# Altium footprint library SEC_3002_DZ&HL.PcbLib: 65 footprints (part 4 of 5)
Each footprint in its own frame and in the unit in brackets; x right, y up, seen from the top. Pads: shape width x height; smd on the part's side, far side on the other; paste and mask are expansions set on the pad; w line width, h text height; cw(c..) or ccw(c..) is an arc to the next point about the centre after c.
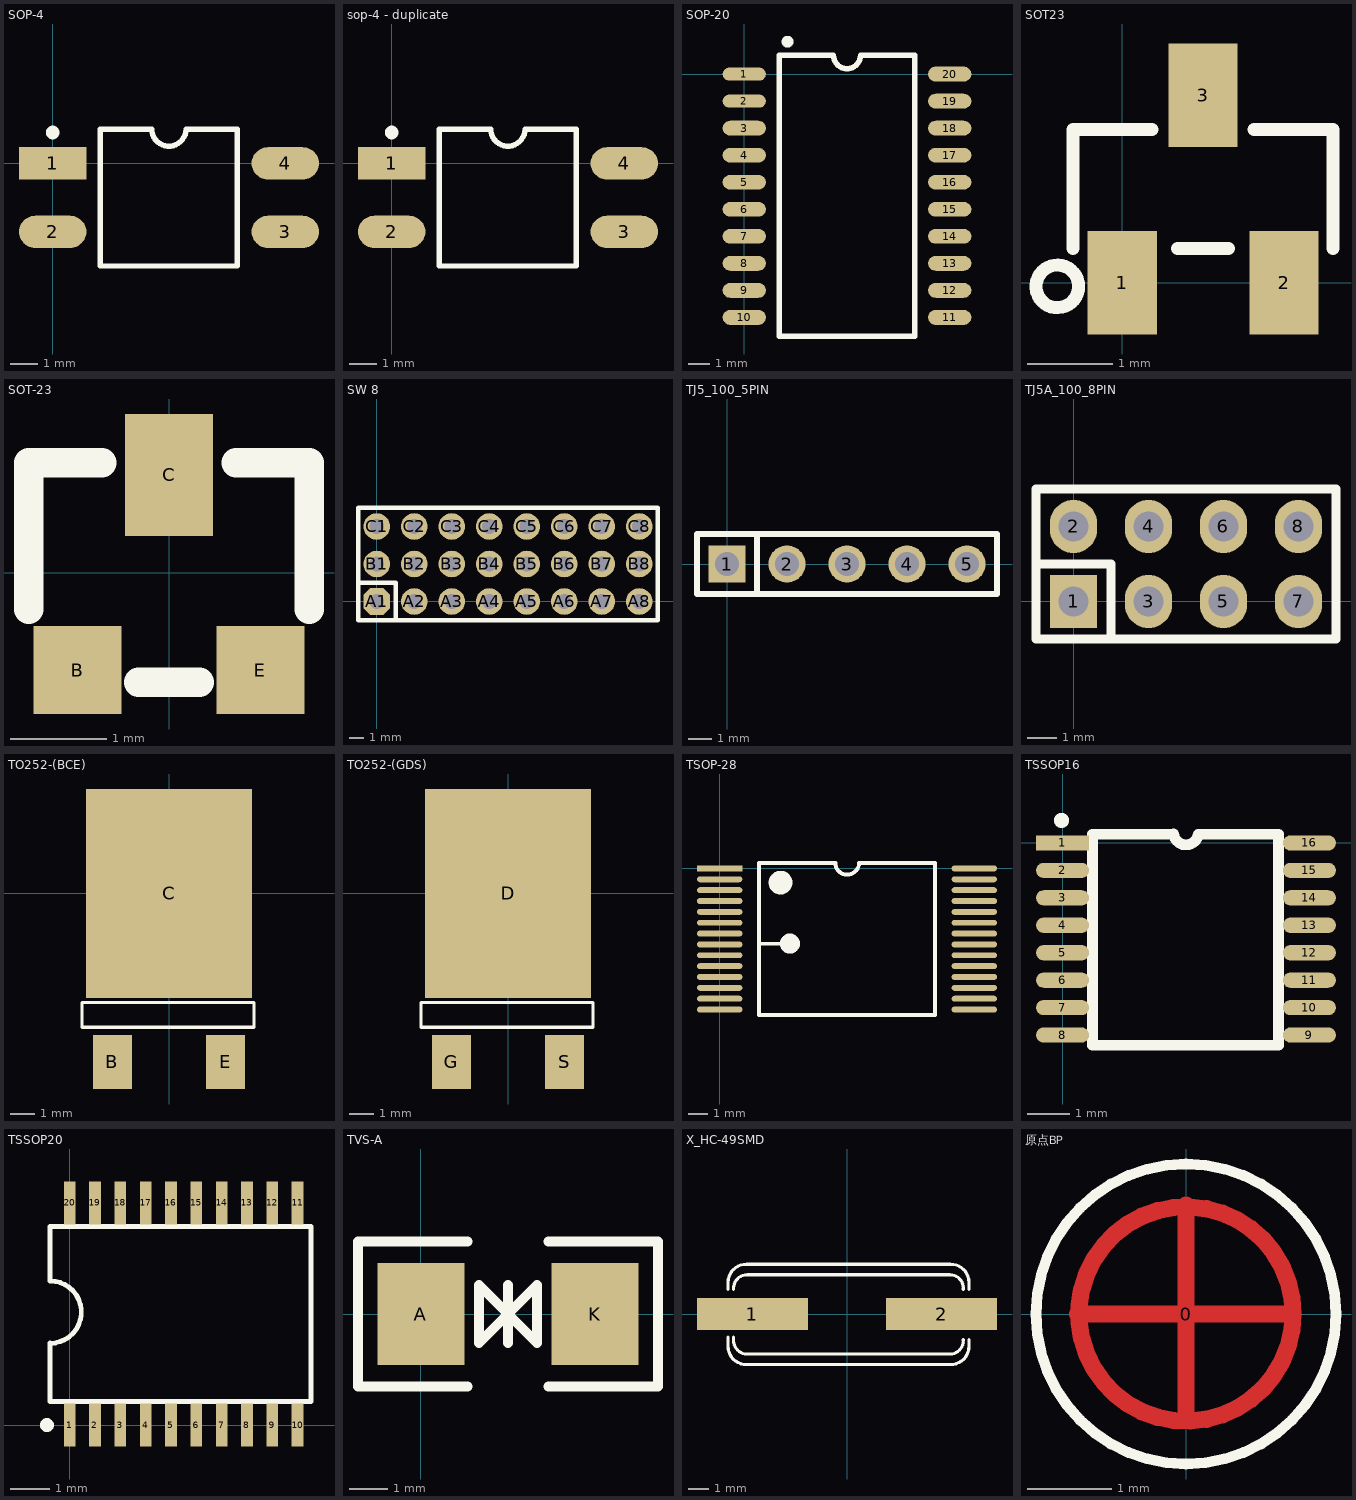
[diagram p3: the footprints below, top view; thin cyan lines are the x and y axes]

## SOP-4 [mm]
pads (4):
  rect 2.5x1.2 smd: 1(0,0)
  oval 2.5x1.2 smd: 2(0,-2.54) 3(8.628,-2.54) 4(8.628,0)
Top Overlay:
  circle w0.254: c0,1.143 r0.127
  lines w0.2: 1.77,-3.81 1.77,1.27 3.675,1.27 ccw(c4.31,1.27) 4.945,1.27 6.85,1.27 6.85,-3.81 1.77,-3.81

## sop-4 - duplicate [mm]
pads (4):
  rect 2.5x1.2 smd: 1(0,0)
  oval 2.5x1.2 smd: 2(0,-2.54) 3(8.628,-2.54) 4(8.628,0)
Top Overlay:
  circle w0.254: c0,1.143 r0.127
  lines w0.2: 1.77,-3.81 1.77,1.27 3.675,1.27 ccw(c4.31,1.27) 4.945,1.27 6.85,1.27 6.85,-3.81 1.77,-3.81

## SOP-20 [mil]
height 53.15
pads (20):
  oval 80x24 smd: 1(0,0) 2(0,-50)
  oval 80x27.56 smd: 3(0,-100) 4(0,-150) 5(0,-200) 6(0,-250) 7(0,-300) 8(0,-350) 9(0,-400) 10(0,-450) 11(380,-450) 12(380,-400) 13(380,-350) 14(380,-300) 15(380,-250) 16(380,-200) 17(380,-150) 18(380,-100) 19(380,-50) 20(380,0)
Top Overlay:
  circle w12: c80,60 r5
  lines w10: 65,-485 315,-485 315,35 215,35 cw(c190,35) 165,35 65,35 65,-485

## SOT23 [mil]
pads (3):
  rect 32x48 smd: 1(0,0) 2(74.8,0) 3(37.4,86.62)
Top Overlay:
  circle w6: c-29.94,-1.68 r9.84
  lines w6: -22.64,15.75 -22.64,70.87 13.78,70.87 ; 25.59,15.75 49.21,15.75 ; 61.02,70.87 97.44,70.87 97.44,15.75

## SOT-23 [mil]
pads (3):
  rect 36x36 smd: B(-37.5,-40) E(37.5,-40)
  rect 36x50 smd: C(0,40)
Top Overlay:
  lines w12: -57.5,-15 -57.5,45 -27.5,45 ; -12.5,-45 12.5,-45 ; 27.5,45 57.5,45 57.5,-15

## SW 8 [mm]
height 1.35
pads (24):
  oct 1.8x1.8 hole 1: A1(0,0)
  round 1.8 hole 1: A2(2.54,0) A3(5.08,0) A4(7.62,0) A5(10.16,0) A6(12.7,0) A7(15.24,0) A8(17.78,0) B1(0,2.54) B2(2.54,2.54) B3(5.08,2.54) B4(7.62,2.54) B5(10.16,2.54) B6(12.7,2.54) B7(15.24,2.54) B8(17.78,2.54) C1(0,5.08) C2(2.54,5.08) C3(5.08,5.08) C4(7.62,5.08) C5(10.16,5.08) C6(12.7,5.08) C7(15.24,5.08) C8(17.78,5.08)
Top Overlay:
  lines w0.305: -1.27,1.27 1.27,1.27 1.27,-1.27 ; -1.27,-1.27 -1.27,6.35 19.05,6.35 19.05,-1.27 -1.27,-1.27

## TJ5_100_5PIN [mm]
pads (5):
  rect 1.57x1.57 hole 1: 1(0,0)
  round 1.57 hole 1: 2(2.54,0) 3(5.08,0) 4(7.62,0) 5(10.16,0)
Top Overlay:
  lines w0.254: 1.27,-1.27 1.27,1.27 ; -1.27,-1.27 11.43,-1.27 11.43,1.27 -1.27,1.27 -1.27,-1.27

## TJ5A_100_8PIN [mm]
pads (8):
  rect 1.6x1.8 hole 1: 1(0,0)
  oval 1.6x1.8 hole 1: 2(0,2.54) 3(2.54,0) 4(2.54,2.54) 5(5.08,0) 6(5.08,2.54) 7(7.62,0) 8(7.62,2.54)
Top Overlay:
  lines w0.305: -1.27,1.27 1.27,1.27 1.27,-1.27 ; -1.27,-1.27 8.89,-1.27 8.89,3.81 -1.27,3.81 -1.27,-1.27

## TO252-(BCE) [mm]
height 1.35
pads (3):
  rect 1.6x2.2 smd: B(-2.3,-6.858) E(2.3,-6.858)
  rect 6.75x8.5 smd: C(0,0)
Top Overlay:
  lines w0.127: -3.548,-5.445 3.452,-5.445 3.452,-4.445 -3.548,-4.445 -3.548,-5.445

## TO252-(GDS) [mm]
height 1.35
pads (3):
  rect 6.75x8.5 smd: D(0,0)
  rect 1.6x2.2 smd: G(-2.3,-6.858) S(2.3,-6.858)
Top Overlay:
  lines w0.127: -3.548,-5.445 -3.548,-4.445 3.452,-4.445 3.452,-5.445 -3.548,-5.445

## TSOP-28 [mm]
pads (28):
  oval 2.3x0.3 smd: 1(0,-3.85) 2(0,-4.4) 3(0,-4.95) 4(0,-5.5) 5(0,-6.05) 6(0,-6.6) 7(0,-7.15) 8(12.9,-7.15) 9(12.9,-6.6) 10(12.9,-6.05) 11(12.9,-5.5) 12(12.9,-4.95) 13(12.9,-4.4) 14(12.9,-3.85) 15(12.9,-3.3) 16(12.9,-2.75) 17(12.9,-2.2) 18(12.9,-1.65) 19(12.9,-1.1) 20(12.9,-0.55) 21(12.9,0) 23(0,-0.55) 24(0,-1.1) 25(0,-1.65) 26(0,-2.2) 27(0,-2.75) 28(0,-3.3)
  rect 2.3x0.3 smd: 22(0,0)
Top Overlay:
  circle w0.6: c3.082,-0.718 r0.3
  circle w0.762: c3.556,-3.81 r0.127
  lines w0.178: 2.032,-3.81 3.302,-3.81
  lines w0.2: 5.843,0.275 1.985,0.275 1.985,-7.425 10.915,-7.425 10.915,0.275 7.058,0.275 cw(c6.458,0.284) 5.858,0.283

## TSSOP16 [mm]
height 1.35
pads (16):
  rect 1.26x0.36 smd: 1(0,0)
  oval 1.26x0.36 smd: 2(0,-0.65) 3(0,-1.3) 4(0,-1.95) 5(0,-2.6) 6(0,-3.25) 7(0,-3.9) 8(0,-4.55) 9(5.842,-4.55) 10(5.842,-3.9) 11(5.842,-3.25) 12(5.842,-2.6) 13(5.842,-1.95) 14(5.842,-1.3) 15(5.842,-0.65) 16(5.842,0)
Top Overlay:
  circle w0.305: c-0.025,0.533 r0.025
  lines w0.254: 2.616,0.208 0.708,0.208 0.708,-4.792 5.108,-4.792 5.108,0.208 3.214,0.208 cw(c2.921,0.249) 2.627,0.211

## TSSOP20 [mm]
height 1.35
pads (20):
  rect 0.3x1.1 smd: 1(0,0) 2(0.65,0) 3(1.3,0) 4(1.95,0) 5(2.6,0) 6(3.25,0) 7(3.9,0) 8(4.55,0) 9(5.2,0) 10(5.85,0) 11(5.85,5.7) 12(5.2,5.7) 13(4.55,5.7) 14(3.9,5.7) 15(3.25,5.7) 16(2.6,5.7) 17(1.95,5.7) 18(1.3,5.7) 19(0.65,5.7) 20(0,5.7)
Top Overlay:
  circle w0.305: c-0.584,0 r0.025
  lines w0.127: -0.5,0.6 -0.5,2.1 ccw(c-0.5,2.9) -0.5,3.7 -0.5,5.1 6.2,5.1 6.2,0.6 -0.5,0.6

## TVS-A [mil]
height 53.15
pads (2):
  rect 90x105 smd: A(0,0) K(180,0)
Top Overlay:
  lines w10: 48.49,-75 -65,-75 -65,75 48.49,75 ; 90,-30 90,0 ; 90,30 90,0 ; 131.51,-75 245,-75 245,75 131.51,75 ; 90,0 60,30 60,-30 90,0 ; 90,0 120,-30 120,30 90,0

## X_HC-49SMD [mil]
height 53.15
pads (2):
  rect 210x60 smd: 1(-179.13,0) 2(179.13,0)
Top Overlay:
  lines w6: -225.52,-44.08 -225.52,-60.85 ccw(c-190.52,-60.85) -190.52,-95.85 196.18,-95.85 ccw(c196.18,-60.85) 231.18,-60.85 231.18,-48.01 ; -225.52,46.47 -225.52,59.31 cw(c-190.52,59.31) -190.52,94.31 196.18,94.31 cw(c196.18,59.31) 231.18,59.31 231.18,46.47 ; -214.69,-44.08 -214.69,-50.77 ccw(c-189.69,-50.77) -189.69,-75.77 195.35,-75.77 ccw(c195.35,-50.77) 220.35,-50.77 220.35,-48.02 ; -214.69,46.47 -214.69,49.23 cw(c-189.69,49.23) -189.69,74.23 195.35,74.23 cw(c195.35,49.23) 220.35,49.23 220.35,46.47

## 原点BP [mm]
height 1.35
pads (1):
  round 2.75 on Top Solder: 0(0,0)
Top Layer:
  circle w0.203: c0,0 r1.27
  lines w0.203: -1.283,0 1.257,0 ; 0,-1.247 0,1.293
Top Overlay:
  circle w0.127: c0,0 r1.778
Top Solder:
  lines w0.254: -1.283,0 1.257,0 ; -1.245,0 1.245,0 ; 0,-1.247 0,1.293 ; 0,-1.245 0,1.27